# Altium footprint library 662004230822.PcbLib: 1 footprints
Each footprint in its own frame and in the unit in brackets; x right, y up, seen from the top. Pads: shape width x height; smd on the part's side, far side on the other; paste and mask are expansions set on the pad; w line width, h text height; cw(c..) or ccw(c..) is an arc to the next point about the centre after c.
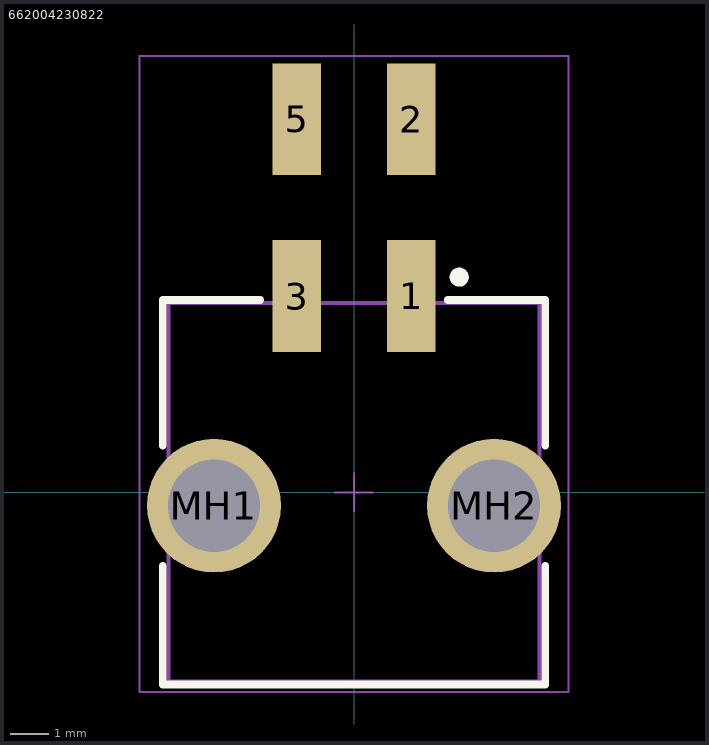
[diagram p0: the footprint, top view; thin cyan lines are the x and y axes]

## 662004230822 [mm] "Dual row SMT Right angle header With TH Metal Clip 03p"
height 8.76
pads (6):
  rect 1.27x2.92 smd: 1(1.5,5.13) 2(1.5,9.75) 3(-1.5,5.13) 5(-1.5,9.75)
  round 3.5 hole 2.41: MH1(-3.66,-0.35) MH2(3.66,-0.35)
Top Overlay:
  circle w0.25: c2.75,5.625 r0.125
  lines w0.2: -5,-1.925 -5,-5.025 5,-5.025 5,-1.925 ; -5,1.225 -5,5.025 -2.45,5.025 ; 2.45,5.025 5,5.025 5,1.225
Top Assembly:
  lines w0.1: -4.85,-4.95 4.85,-4.95 4.85,4.95 -4.85,4.95 -4.85,-4.95
Top Courtyard:
  lines w0.05: -0.5,0 0.5,0 ; 0,-0.5 0,0.5 ; -5.61,-5.225 5.61,-5.225 5.61,11.41 -5.61,11.41 -5.61,-5.225
3D body "662004230822.stp": height 8.78, standoff -3.08, extent -4.85,-4.95 4.85,10.95